# Altium footprint library SW_Lib.PcbLib: 1 footprints
Each footprint in its own frame and in the unit in brackets; x right, y up, seen from the top. Pads: shape width x height; smd on the part's side, far side on the other; paste and mask are expansions set on the pad; w line width, h text height; cw(c..) or ccw(c..) is an arc to the next point about the centre after c.
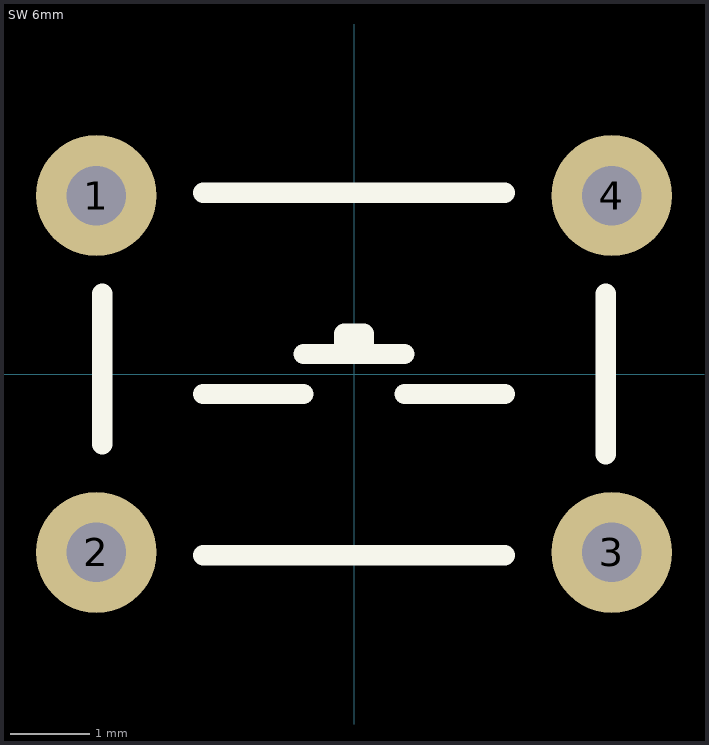
[diagram p0: the footprint, top view; thin cyan lines are the x and y axes]

## SW 6mm [mm]
pads (4):
  round 1.524 hole 0.75: 1(-3.25,2.25) 2(-3.25,-2.25) 3(3.25,-2.25) 4(3.25,2.25)
Top Overlay:
  lines w0.254: -3.175,-0.889 -3.175,1.016 ; -1.905,-2.286 1.905,-2.286 ; -1.905,-0.254 -0.635,-0.254 ; -1.905,2.286 1.905,2.286 ; -0.635,0.254 0.635,0.254 ; -0.127,0.254 -0.127,0.508 ; 0.635,-0.254 1.905,-0.254 ; 3.175,-1.016 3.175,1.016 ; -0.127,0.508 0.127,0.254 0.127,0.508 -0.127,0.508